# EAGLE library part 690368191272 (library Eagle_BOARD-TO-BOARD_CONNECTORS (rev18b))
WR-MM Female Angled Connector with Latch and with Polarization, 12 Pins=>Code : Con_BTB_MM_Female_THT_Ang_690368191272 <http://katalog.we-online.de/media/thumbs2/eican/thb_Con_BTB_MM_Female_THT_Ang_69036819xx72_pf2.jpg> Details see: http://katalog.we-online.de/en/em/6903_6819_xx_72 Created 2014-06-04, Karrer Zheng 2014 (C) Würth Elektronik
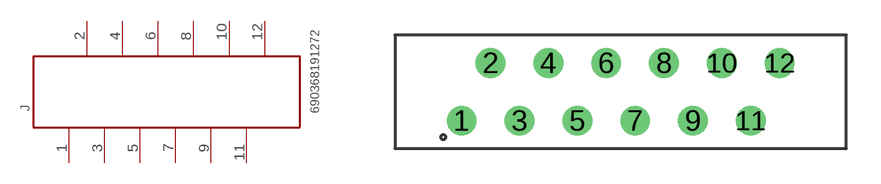
[diagram p396: symbol with the pads of 690368191272; footprint 690368191272]

Designator prefix J

## 690368191272  [690368191272]
1  1  pas
2  2  pas
3  3  pas
4  4  pas
5  5  pas
6  6  pas
7  7  pas
8  8  pas
9  9  pas
10  10  pas
11  11  pas
12  12  pas

## Footprint 690368191272 (pad centres in mm)
WR-MM Female Angled Connector with Latch and with Polarization, 12 Pins
drill 0.8: 1 -6.985,-1.27; 2 -5.715,1.27; 3 -4.445,-1.27; 4 -3.175,1.27; 5 -1.905,-1.27; 6 -0.635,1.27; 7 0.635,-1.27; 8 1.905,1.27; 9 3.175,-1.27; 10 4.445,1.27; 11 5.715,-1.27; 12 6.985,1.27